# Altium integrated library Vishay Lite-On Discrete Diode.IntLib: 290 symbols (part 2 of 3)
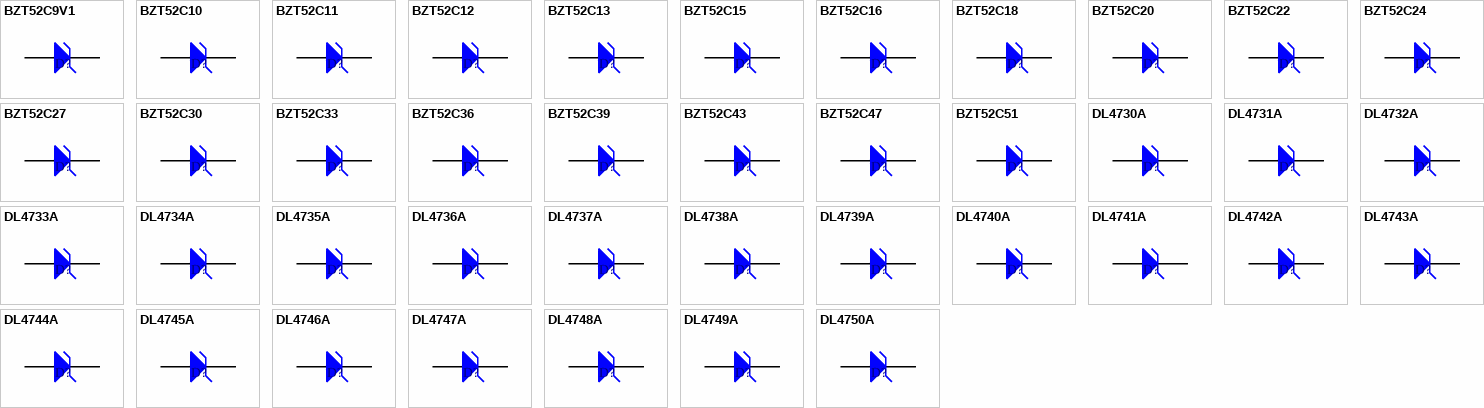
[diagram p8: symbols BZT52C9V1 to DL4750A]

## DL4731A
designator D?
Silicon Zener Diode; Published: 8-Jun-2000; LatestRevisionDate: 19-Mar-2004; LatestRevisionNote: Silkscreen size reduced.; PackageReference: DL-41; Publisher: Altium Limited; Code_IPC: SOD-87/MLL41; ComponentLink1Description: Manufacturer Link; ComponentLink1URL: http://www.vishay.com/
footprint DL-41 (Metal Electrode Face (MELF) Diode; Body 5 x 2.4 mm (LxDia))
simulation model DL4731A (SUBCKT)
signal-integrity model DL4731A
pins: 1 A, 2 K

## DL4732A
designator D?
Silicon Zener Diode; Published: 8-Jun-2000; LatestRevisionDate: 19-Mar-2004; LatestRevisionNote: Silkscreen size reduced.; PackageReference: DL-41; Publisher: Altium Limited; Code_IPC: SOD-87/MLL41; ComponentLink1Description: Manufacturer Link; ComponentLink1URL: http://www.vishay.com/
footprint DL-41 (Metal Electrode Face (MELF) Diode; Body 5 x 2.4 mm (LxDia))
simulation model DL4732A (SUBCKT)
signal-integrity model DL4732A
pins: 1 A, 2 K

## DL4733A
designator D?
Silicon Zener Diode; Published: 8-Jun-2000; LatestRevisionDate: 19-Mar-2004; LatestRevisionNote: Silkscreen size reduced.; PackageReference: DL-41; Publisher: Altium Limited; Code_IPC: SOD-87/MLL41; ComponentLink1Description: Manufacturer Link; ComponentLink1URL: http://www.vishay.com/
footprint DL-41 (Metal Electrode Face (MELF) Diode; Body 5 x 2.4 mm (LxDia))
simulation model DL4733A (SUBCKT)
signal-integrity model DL4733A
pins: 1 A, 2 K

## DL4734A
designator D?
Silicon Zener Diode; Published: 8-Jun-2000; LatestRevisionDate: 19-Mar-2004; LatestRevisionNote: Silkscreen size reduced.; PackageReference: DL-41; Publisher: Altium Limited; Code_IPC: SOD-87/MLL41; ComponentLink1Description: Manufacturer Link; ComponentLink1URL: http://www.vishay.com/
footprint DL-41 (Metal Electrode Face (MELF) Diode; Body 5 x 2.4 mm (LxDia))
simulation model DL4734A (SUBCKT)
signal-integrity model DL4734A
pins: 1 A, 2 K

## DL4735A
designator D?
Silicon Zener Diode; Published: 8-Jun-2000; LatestRevisionDate: 19-Mar-2004; LatestRevisionNote: Silkscreen size reduced.; PackageReference: DL-41; Publisher: Altium Limited; Code_IPC: SOD-87/MLL41; ComponentLink1Description: Manufacturer Link; ComponentLink1URL: http://www.vishay.com/
footprint DL-41 (Metal Electrode Face (MELF) Diode; Body 5 x 2.4 mm (LxDia))
simulation model DL4735A (SUBCKT)
signal-integrity model DL4735A
pins: 1 A, 2 K

## DL4736A
designator D?
Silicon Zener Diode; Published: 8-Jun-2000; LatestRevisionDate: 19-Mar-2004; LatestRevisionNote: Silkscreen size reduced.; PackageReference: DL-41; Publisher: Altium Limited; Code_IPC: SOD-87/MLL41; ComponentLink1Description: Manufacturer Link; ComponentLink1URL: http://www.vishay.com/
footprint DL-41 (Metal Electrode Face (MELF) Diode; Body 5 x 2.4 mm (LxDia))
simulation model DL4736A (SUBCKT)
signal-integrity model DL4736A
pins: 1 A, 2 K

## DL4737A
designator D?
Silicon Zener Diode; Published: 8-Jun-2000; LatestRevisionDate: 19-Mar-2004; LatestRevisionNote: Silkscreen size reduced.; PackageReference: DL-41; Publisher: Altium Limited; Code_IPC: SOD-87/MLL41; ComponentLink1Description: Manufacturer Link; ComponentLink1URL: http://www.vishay.com/
footprint DL-41 (Metal Electrode Face (MELF) Diode; Body 5 x 2.4 mm (LxDia))
simulation model DL4737A (SUBCKT)
signal-integrity model DL4737A
pins: 1 A, 2 K

## DL4738A
designator D?
Silicon Zener Diode; Published: 8-Jun-2000; LatestRevisionDate: 19-Mar-2004; LatestRevisionNote: Silkscreen size reduced.; PackageReference: DL-41; Publisher: Altium Limited; Code_IPC: SOD-87/MLL41; ComponentLink1Description: Manufacturer Link; ComponentLink1URL: http://www.vishay.com/
footprint DL-41 (Metal Electrode Face (MELF) Diode; Body 5 x 2.4 mm (LxDia))
simulation model DL4738A (SUBCKT)
signal-integrity model DL4738A
pins: 1 A, 2 K

## DL4739A
designator D?
Silicon Zener Diode; Published: 8-Jun-2000; LatestRevisionDate: 19-Mar-2004; LatestRevisionNote: Silkscreen size reduced.; PackageReference: DL-41; Publisher: Altium Limited; Code_IPC: SOD-87/MLL41; ComponentLink1Description: Manufacturer Link; ComponentLink1URL: http://www.vishay.com/
footprint DL-41 (Metal Electrode Face (MELF) Diode; Body 5 x 2.4 mm (LxDia))
simulation model DL4739A (SUBCKT)
signal-integrity model DL4739A
pins: 1 A, 2 K

## DL4740A
designator D?
Silicon Zener Diode; Published: 8-Jun-2000; LatestRevisionDate: 19-Mar-2004; LatestRevisionNote: Silkscreen size reduced.; PackageReference: DL-41; Publisher: Altium Limited; Code_IPC: SOD-87/MLL41; ComponentLink1Description: Manufacturer Link; ComponentLink1URL: http://www.vishay.com/
footprint DL-41 (Metal Electrode Face (MELF) Diode; Body 5 x 2.4 mm (LxDia))
simulation model DL4740A (SUBCKT)
signal-integrity model DL4740A
pins: 1 A, 2 K

## DL4741A
designator D?
Silicon Zener Diode; Published: 8-Jun-2000; LatestRevisionDate: 19-Mar-2004; LatestRevisionNote: Silkscreen size reduced.; PackageReference: DL-41; Publisher: Altium Limited; Code_IPC: SOD-87/MLL41; ComponentLink1Description: Manufacturer Link; ComponentLink1URL: http://www.vishay.com/
footprint DL-41 (Metal Electrode Face (MELF) Diode; Body 5 x 2.4 mm (LxDia))
simulation model DL4741A (SUBCKT)
signal-integrity model DL4741A
pins: 1 A, 2 K

## DL4742A
designator D?
Silicon Zener Diode; Published: 8-Jun-2000; LatestRevisionDate: 19-Mar-2004; LatestRevisionNote: Silkscreen size reduced.; PackageReference: DL-41; Publisher: Altium Limited; Code_IPC: SOD-87/MLL41; ComponentLink1Description: Manufacturer Link; ComponentLink1URL: http://www.vishay.com/
footprint DL-41 (Metal Electrode Face (MELF) Diode; Body 5 x 2.4 mm (LxDia))
simulation model DL4742A (SUBCKT)
signal-integrity model DL4742A
pins: 1 A, 2 K

## DL4743A
designator D?
Silicon Zener Diode; Published: 8-Jun-2000; LatestRevisionDate: 19-Mar-2004; LatestRevisionNote: Silkscreen size reduced.; PackageReference: DL-41; Publisher: Altium Limited; Code_IPC: SOD-87/MLL41; ComponentLink1Description: Manufacturer Link; ComponentLink1URL: http://www.vishay.com/
footprint DL-41 (Metal Electrode Face (MELF) Diode; Body 5 x 2.4 mm (LxDia))
simulation model DL4743A (SUBCKT)
signal-integrity model DL4743A
pins: 1 A, 2 K

## DL4744A
designator D?
Silicon Zener Diode; Published: 8-Jun-2000; LatestRevisionDate: 19-Mar-2004; LatestRevisionNote: Silkscreen size reduced.; PackageReference: DL-41; Publisher: Altium Limited; Code_IPC: SOD-87/MLL41; ComponentLink1Description: Manufacturer Link; ComponentLink1URL: http://www.vishay.com/
footprint DL-41 (Metal Electrode Face (MELF) Diode; Body 5 x 2.4 mm (LxDia))
simulation model DL4744A (SUBCKT)
signal-integrity model DL4744A
pins: 1 A, 2 K

## DL4745A
designator D?
Silicon Zener Diode; Published: 8-Jun-2000; LatestRevisionDate: 19-Mar-2004; LatestRevisionNote: Silkscreen size reduced.; PackageReference: DL-41; Publisher: Altium Limited; Code_IPC: SOD-87/MLL41; ComponentLink1Description: Manufacturer Link; ComponentLink1URL: http://www.vishay.com/
footprint DL-41 (Metal Electrode Face (MELF) Diode; Body 5 x 2.4 mm (LxDia))
simulation model DL4745A (SUBCKT)
signal-integrity model DL4745A
pins: 1 A, 2 K

## DL4746A
designator D?
Silicon Zener Diode; Published: 8-Jun-2000; LatestRevisionDate: 19-Mar-2004; LatestRevisionNote: Silkscreen size reduced.; PackageReference: DL-41; Publisher: Altium Limited; Code_IPC: SOD-87/MLL41; ComponentLink1Description: Manufacturer Link; ComponentLink1URL: http://www.vishay.com/
footprint DL-41 (Metal Electrode Face (MELF) Diode; Body 5 x 2.4 mm (LxDia))
simulation model DL4746A (SUBCKT)
signal-integrity model DL4746A
pins: 1 A, 2 K

## DL4747A
designator D?
Silicon Zener Diode; Published: 8-Jun-2000; LatestRevisionDate: 19-Mar-2004; LatestRevisionNote: Silkscreen size reduced.; PackageReference: DL-41; Publisher: Altium Limited; Code_IPC: SOD-87/MLL41; ComponentLink1Description: Manufacturer Link; ComponentLink1URL: http://www.vishay.com/
footprint DL-41 (Metal Electrode Face (MELF) Diode; Body 5 x 2.4 mm (LxDia))
simulation model DL4747A (SUBCKT)
signal-integrity model DL4747A
pins: 1 A, 2 K

## DL4748A
designator D?
Silicon Zener Diode; Published: 8-Jun-2000; LatestRevisionDate: 19-Mar-2004; LatestRevisionNote: Silkscreen size reduced.; PackageReference: DL-41; Publisher: Altium Limited; Code_IPC: SOD-87/MLL41; ComponentLink1Description: Manufacturer Link; ComponentLink1URL: http://www.vishay.com/
footprint DL-41 (Metal Electrode Face (MELF) Diode; Body 5 x 2.4 mm (LxDia))
simulation model DL4748A (SUBCKT)
signal-integrity model DL4748A
pins: 1 A, 2 K

## DL4749A
designator D?
Silicon Zener Diode; Published: 8-Jun-2000; LatestRevisionDate: 19-Mar-2004; LatestRevisionNote: Silkscreen size reduced.; PackageReference: DL-41; Publisher: Altium Limited; Code_IPC: SOD-87/MLL41; ComponentLink1Description: Manufacturer Link; ComponentLink1URL: http://www.vishay.com/
footprint DL-41 (Metal Electrode Face (MELF) Diode; Body 5 x 2.4 mm (LxDia))
simulation model DL4749A (SUBCKT)
signal-integrity model DL4749A
pins: 1 A, 2 K

## DL4750A
designator D?
Silicon Zener Diode; Published: 8-Jun-2000; LatestRevisionDate: 19-Mar-2004; LatestRevisionNote: Silkscreen size reduced.; PackageReference: DL-41; Publisher: Altium Limited; Code_IPC: SOD-87/MLL41; ComponentLink1Description: Manufacturer Link; ComponentLink1URL: http://www.vishay.com/
footprint DL-41 (Metal Electrode Face (MELF) Diode; Body 5 x 2.4 mm (LxDia))
simulation model DL4750A (SUBCKT)
signal-integrity model DL4750A
pins: 1 A, 2 K

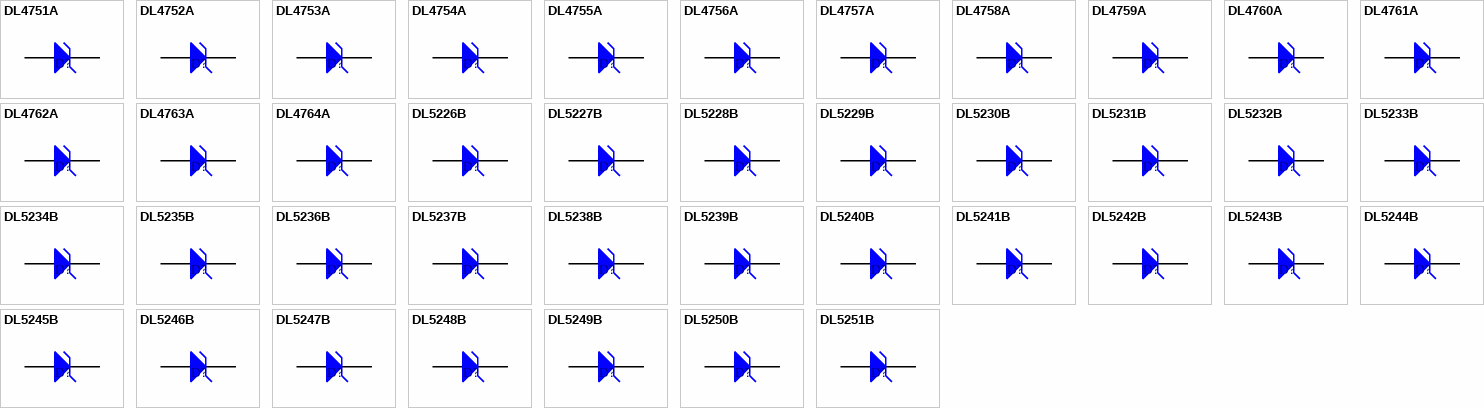
[diagram p3: symbols DL4751A to DL5251B]

## DL4751A
designator D?
Silicon Zener Diode; Published: 8-Jun-2000; LatestRevisionDate: 19-Mar-2004; LatestRevisionNote: Silkscreen size reduced.; PackageReference: DL-41; Publisher: Altium Limited; Code_IPC: SOD-87/MLL41; ComponentLink1Description: Manufacturer Link; ComponentLink1URL: http://www.vishay.com/
footprint DL-41 (Metal Electrode Face (MELF) Diode; Body 5 x 2.4 mm (LxDia))
simulation model DL4751A (SUBCKT)
signal-integrity model DL4751A
pins: 1 A, 2 K

## DL4752A
designator D?
Silicon Zener Diode; Published: 8-Jun-2000; LatestRevisionDate: 19-Mar-2004; LatestRevisionNote: Silkscreen size reduced.; PackageReference: DL-41; Publisher: Altium Limited; Code_IPC: SOD-87/MLL41; ComponentLink1Description: Manufacturer Link; ComponentLink1URL: http://www.vishay.com/
footprint DL-41 (Metal Electrode Face (MELF) Diode; Body 5 x 2.4 mm (LxDia))
simulation model DL4752A (SUBCKT)
signal-integrity model DL4752A
pins: 1 A, 2 K

## DL4753A
designator D?
Silicon Zener Diode; Published: 8-Jun-2000; LatestRevisionDate: 19-Mar-2004; LatestRevisionNote: Silkscreen size reduced.; PackageReference: DL-41; Publisher: Altium Limited; Code_IPC: SOD-87/MLL41; ComponentLink1Description: Manufacturer Link; ComponentLink1URL: http://www.vishay.com/
footprint DL-41 (Metal Electrode Face (MELF) Diode; Body 5 x 2.4 mm (LxDia))
simulation model DL4753A (SUBCKT)
signal-integrity model DL4753A
pins: 1 A, 2 K

## DL4754A
designator D?
Silicon Zener Diode; Published: 8-Jun-2000; LatestRevisionDate: 19-Mar-2004; LatestRevisionNote: Silkscreen size reduced.; PackageReference: DL-41; Publisher: Altium Limited; Code_IPC: SOD-87/MLL41; ComponentLink1Description: Manufacturer Link; ComponentLink1URL: http://www.vishay.com/
footprint DL-41 (Metal Electrode Face (MELF) Diode; Body 5 x 2.4 mm (LxDia))
simulation model DL4754A (SUBCKT)
signal-integrity model DL4754A
pins: 1 A, 2 K

## DL4755A
designator D?
Silicon Zener Diode; Published: 8-Jun-2000; LatestRevisionDate: 19-Mar-2004; LatestRevisionNote: Silkscreen size reduced.; PackageReference: DL-41; Publisher: Altium Limited; Code_IPC: SOD-87/MLL41; ComponentLink1Description: Manufacturer Link; ComponentLink1URL: http://www.vishay.com/
footprint DL-41 (Metal Electrode Face (MELF) Diode; Body 5 x 2.4 mm (LxDia))
simulation model DL4755A (SUBCKT)
signal-integrity model DL4755A
pins: 1 A, 2 K

## DL4756A
designator D?
Silicon Zener Diode; Published: 8-Jun-2000; LatestRevisionDate: 19-Mar-2004; LatestRevisionNote: Silkscreen size reduced.; PackageReference: DL-41; Publisher: Altium Limited; Code_IPC: SOD-87/MLL41; ComponentLink1Description: Manufacturer Link; ComponentLink1URL: http://www.vishay.com/
footprint DL-41 (Metal Electrode Face (MELF) Diode; Body 5 x 2.4 mm (LxDia))
simulation model DL4756A (SUBCKT)
signal-integrity model DL4756A
pins: 1 A, 2 K

## DL4757A
designator D?
Silicon Zener Diode; Published: 8-Jun-2000; LatestRevisionDate: 19-Mar-2004; LatestRevisionNote: Silkscreen size reduced.; PackageReference: DL-41; Publisher: Altium Limited; Code_IPC: SOD-87/MLL41; ComponentLink1Description: Manufacturer Link; ComponentLink1URL: http://www.vishay.com/
footprint DL-41 (Metal Electrode Face (MELF) Diode; Body 5 x 2.4 mm (LxDia))
simulation model DL4757A (SUBCKT)
signal-integrity model DL4757A
pins: 1 A, 2 K

## DL4758A
designator D?
Silicon Zener Diode; Published: 8-Jun-2000; LatestRevisionDate: 19-Mar-2004; LatestRevisionNote: Silkscreen size reduced.; PackageReference: DL-41; Publisher: Altium Limited; Code_IPC: SOD-87/MLL41; ComponentLink1Description: Manufacturer Link; ComponentLink1URL: http://www.vishay.com/
footprint DL-41 (Metal Electrode Face (MELF) Diode; Body 5 x 2.4 mm (LxDia))
simulation model DL4758A (SUBCKT)
signal-integrity model DL4758A
pins: 1 A, 2 K

## DL4759A
designator D?
Silicon Zener Diode; Published: 8-Jun-2000; LatestRevisionDate: 19-Mar-2004; LatestRevisionNote: Silkscreen size reduced.; PackageReference: DL-41; Publisher: Altium Limited; Code_IPC: SOD-87/MLL41; ComponentLink1Description: Manufacturer Link; ComponentLink1URL: http://www.vishay.com/
footprint DL-41 (Metal Electrode Face (MELF) Diode; Body 5 x 2.4 mm (LxDia))
simulation model DL4759A (SUBCKT)
signal-integrity model DL4759A
pins: 1 A, 2 K

## DL4760A
designator D?
Silicon Zener Diode; Published: 8-Jun-2000; LatestRevisionDate: 19-Mar-2004; LatestRevisionNote: Silkscreen size reduced.; PackageReference: DL-41; Publisher: Altium Limited; Code_IPC: SOD-87/MLL41; ComponentLink1Description: Manufacturer Link; ComponentLink1URL: http://www.vishay.com/
footprint DL-41 (Metal Electrode Face (MELF) Diode; Body 5 x 2.4 mm (LxDia))
simulation model DL4760A (SUBCKT)
signal-integrity model DL4760A
pins: 1 A, 2 K

## DL4761A
designator D?
Silicon Zener Diode; Published: 8-Jun-2000; LatestRevisionDate: 19-Mar-2004; LatestRevisionNote: Silkscreen size reduced.; PackageReference: DL-41; Publisher: Altium Limited; Code_IPC: SOD-87/MLL41; ComponentLink1Description: Manufacturer Link; ComponentLink1URL: http://www.vishay.com/
footprint DL-41 (Metal Electrode Face (MELF) Diode; Body 5 x 2.4 mm (LxDia))
simulation model DL4761A (SUBCKT)
signal-integrity model DL4761A
pins: 1 A, 2 K

## DL4762A
designator D?
Silicon Zener Diode; Published: 8-Jun-2000; LatestRevisionDate: 19-Mar-2004; LatestRevisionNote: Silkscreen size reduced.; PackageReference: DL-41; Publisher: Altium Limited; Code_IPC: SOD-87/MLL41; ComponentLink1Description: Manufacturer Link; ComponentLink1URL: http://www.vishay.com/
footprint DL-41 (Metal Electrode Face (MELF) Diode; Body 5 x 2.4 mm (LxDia))
simulation model DL4762A (SUBCKT)
signal-integrity model DL4762A
pins: 1 A, 2 K

## DL4763A
designator D?
Silicon Zener Diode; Published: 8-Jun-2000; LatestRevisionDate: 19-Mar-2004; LatestRevisionNote: Silkscreen size reduced.; PackageReference: DL-41; Publisher: Altium Limited; Code_IPC: SOD-87/MLL41; ComponentLink1Description: Manufacturer Link; ComponentLink1URL: http://www.vishay.com/
footprint DL-41 (Metal Electrode Face (MELF) Diode; Body 5 x 2.4 mm (LxDia))
simulation model DL4763A (SUBCKT)
signal-integrity model DL4763A
pins: 1 A, 2 K

## DL4764A
designator D?
Silicon Zener Diode; Published: 8-Jun-2000; LatestRevisionDate: 19-Mar-2004; LatestRevisionNote: Silkscreen size reduced.; PackageReference: DL-41; Publisher: Altium Limited; Code_IPC: SOD-87/MLL41; ComponentLink1Description: Manufacturer Link; ComponentLink1URL: http://www.vishay.com/
footprint DL-41 (Metal Electrode Face (MELF) Diode; Body 5 x 2.4 mm (LxDia))
simulation model DL4764A (SUBCKT)
signal-integrity model DL4764A
pins: 1 A, 2 K

## DL5226B
designator D?
Silicon Zener Diode; Published: 8-Jun-2000; LatestRevisionDate: 19-Mar-2004; LatestRevisionNote: Silkscreen size reduced.; PackageReference: DL-35; Publisher: Altium Limited; ComponentLink1Description: Manufacturer Link; ComponentLink1URL: http://www.vishay.com/
footprint DL-35 (Metal Electrode Face (MELF) Diode; Body 3.5 x 1.5 mm (LxDia))
simulation model DL5226B (SUBCKT)
signal-integrity model DL5226B
pins: 1 A, 2 K

## DL5227B
designator D?
Silicon Zener Diode; Published: 8-Jun-2000; LatestRevisionDate: 19-Mar-2004; LatestRevisionNote: Silkscreen size reduced.; PackageReference: DL-35; Publisher: Altium Limited; ComponentLink1Description: Manufacturer Link; ComponentLink1URL: http://www.vishay.com/
footprint DL-35 (Metal Electrode Face (MELF) Diode; Body 3.5 x 1.5 mm (LxDia))
simulation model DL5227B (SUBCKT)
signal-integrity model DL5227B
pins: 1 A, 2 K

## DL5228B
designator D?
Silicon Zener Diode; Published: 8-Jun-2000; LatestRevisionDate: 19-Mar-2004; LatestRevisionNote: Silkscreen size reduced.; PackageReference: DL-35; Publisher: Altium Limited; ComponentLink1Description: Manufacturer Link; ComponentLink1URL: http://www.vishay.com/
footprint DL-35 (Metal Electrode Face (MELF) Diode; Body 3.5 x 1.5 mm (LxDia))
simulation model DL5228B (SUBCKT)
signal-integrity model DL5228B
pins: 1 A, 2 K

## DL5229B
designator D?
Silicon Zener Diode; Published: 8-Jun-2000; LatestRevisionDate: 19-Mar-2004; LatestRevisionNote: Silkscreen size reduced.; PackageReference: DL-35; Publisher: Altium Limited; ComponentLink1Description: Manufacturer Link; ComponentLink1URL: http://www.vishay.com/
footprint DL-35 (Metal Electrode Face (MELF) Diode; Body 3.5 x 1.5 mm (LxDia))
simulation model DL5229B (SUBCKT)
signal-integrity model DL5229B
pins: 1 A, 2 K

## DL5230B
designator D?
Silicon Zener Diode; Published: 8-Jun-2000; LatestRevisionDate: 19-Mar-2004; LatestRevisionNote: Silkscreen size reduced.; PackageReference: DL-35; Publisher: Altium Limited; ComponentLink1Description: Manufacturer Link; ComponentLink1URL: http://www.vishay.com/
footprint DL-35 (Metal Electrode Face (MELF) Diode; Body 3.5 x 1.5 mm (LxDia))
simulation model DL5230B (SUBCKT)
signal-integrity model DL5230B
pins: 1 A, 2 K

## DL5231B
designator D?
Silicon Zener Diode; Published: 8-Jun-2000; LatestRevisionDate: 19-Mar-2004; LatestRevisionNote: Silkscreen size reduced.; PackageReference: DL-35; Publisher: Altium Limited; ComponentLink1Description: Manufacturer Link; ComponentLink1URL: http://www.vishay.com/
footprint DL-35 (Metal Electrode Face (MELF) Diode; Body 3.5 x 1.5 mm (LxDia))
simulation model DL5231B (SUBCKT)
signal-integrity model DL5231B
pins: 1 A, 2 K

## DL5232B
designator D?
Silicon Zener Diode; Published: 8-Jun-2000; LatestRevisionDate: 19-Mar-2004; LatestRevisionNote: Silkscreen size reduced.; PackageReference: DL-35; Publisher: Altium Limited; ComponentLink1Description: Manufacturer Link; ComponentLink1URL: http://www.vishay.com/
footprint DL-35 (Metal Electrode Face (MELF) Diode; Body 3.5 x 1.5 mm (LxDia))
simulation model DL5232B (SUBCKT)
signal-integrity model DL5232B
pins: 1 A, 2 K

## DL5233B
designator D?
Silicon Zener Diode; Published: 8-Jun-2000; LatestRevisionDate: 19-Mar-2004; LatestRevisionNote: Silkscreen size reduced.; PackageReference: DL-35; Publisher: Altium Limited; ComponentLink1Description: Manufacturer Link; ComponentLink1URL: http://www.vishay.com/
footprint DL-35 (Metal Electrode Face (MELF) Diode; Body 3.5 x 1.5 mm (LxDia))
simulation model DL5233B (SUBCKT)
signal-integrity model DL5233B
pins: 1 A, 2 K

## DL5234B
designator D?
Silicon Zener Diode; Published: 8-Jun-2000; LatestRevisionDate: 19-Mar-2004; LatestRevisionNote: Silkscreen size reduced.; PackageReference: DL-35; Publisher: Altium Limited; ComponentLink1Description: Manufacturer Link; ComponentLink1URL: http://www.vishay.com/
footprint DL-35 (Metal Electrode Face (MELF) Diode; Body 3.5 x 1.5 mm (LxDia))
simulation model DL5234B (SUBCKT)
signal-integrity model DL5234B
pins: 1 A, 2 K

## DL5235B
designator D?
Silicon Zener Diode; Published: 8-Jun-2000; LatestRevisionDate: 19-Mar-2004; LatestRevisionNote: Silkscreen size reduced.; PackageReference: DL-35; Publisher: Altium Limited; ComponentLink1Description: Manufacturer Link; ComponentLink1URL: http://www.vishay.com/
footprint DL-35 (Metal Electrode Face (MELF) Diode; Body 3.5 x 1.5 mm (LxDia))
simulation model DL5235B (SUBCKT)
signal-integrity model DL5235B
pins: 1 A, 2 K

## DL5236B
designator D?
Silicon Zener Diode; Published: 8-Jun-2000; LatestRevisionDate: 19-Mar-2004; LatestRevisionNote: Silkscreen size reduced.; PackageReference: DL-35; Publisher: Altium Limited; ComponentLink1Description: Manufacturer Link; ComponentLink1URL: http://www.vishay.com/
footprint DL-35 (Metal Electrode Face (MELF) Diode; Body 3.5 x 1.5 mm (LxDia))
simulation model DL5236B (SUBCKT)
signal-integrity model DL5236B
pins: 1 A, 2 K

## DL5237B
designator D?
Silicon Zener Diode; Published: 8-Jun-2000; LatestRevisionDate: 19-Mar-2004; LatestRevisionNote: Silkscreen size reduced.; PackageReference: DL-35; Publisher: Altium Limited; ComponentLink1Description: Manufacturer Link; ComponentLink1URL: http://www.vishay.com/
footprint DL-35 (Metal Electrode Face (MELF) Diode; Body 3.5 x 1.5 mm (LxDia))
simulation model DL5237B (SUBCKT)
signal-integrity model DL5237B
pins: 1 A, 2 K

## DL5238B
designator D?
Silicon Zener Diode; Published: 8-Jun-2000; LatestRevisionDate: 19-Mar-2004; LatestRevisionNote: Silkscreen size reduced.; PackageReference: DL-35; Publisher: Altium Limited; ComponentLink1Description: Manufacturer Link; ComponentLink1URL: http://www.vishay.com/
footprint DL-35 (Metal Electrode Face (MELF) Diode; Body 3.5 x 1.5 mm (LxDia))
simulation model DL5238B (SUBCKT)
signal-integrity model DL5238B
pins: 1 A, 2 K

## DL5239B
designator D?
Silicon Zener Diode; Published: 8-Jun-2000; LatestRevisionDate: 19-Mar-2004; LatestRevisionNote: Silkscreen size reduced.; PackageReference: DL-35; Publisher: Altium Limited; ComponentLink1Description: Manufacturer Link; ComponentLink1URL: http://www.vishay.com/
footprint DL-35 (Metal Electrode Face (MELF) Diode; Body 3.5 x 1.5 mm (LxDia))
simulation model DL5239B (SUBCKT)
signal-integrity model DL5239B
pins: 1 A, 2 K

## DL5240B
designator D?
Silicon Zener Diode; Published: 8-Jun-2000; LatestRevisionDate: 19-Mar-2004; LatestRevisionNote: Silkscreen size reduced.; PackageReference: DL-35; Publisher: Altium Limited; ComponentLink1Description: Manufacturer Link; ComponentLink1URL: http://www.vishay.com/
footprint DL-35 (Metal Electrode Face (MELF) Diode; Body 3.5 x 1.5 mm (LxDia))
simulation model DL5240B (SUBCKT)
signal-integrity model DL5240B
pins: 1 A, 2 K

## DL5241B
designator D?
Silicon Zener Diode; Published: 8-Jun-2000; LatestRevisionDate: 19-Mar-2004; LatestRevisionNote: Silkscreen size reduced.; PackageReference: DL-35; Publisher: Altium Limited; ComponentLink1Description: Manufacturer Link; ComponentLink1URL: http://www.vishay.com/
footprint DL-35 (Metal Electrode Face (MELF) Diode; Body 3.5 x 1.5 mm (LxDia))
simulation model DL5241B (SUBCKT)
signal-integrity model DL5241B
pins: 1 A, 2 K

## DL5242B
designator D?
Silicon Zener Diode; Published: 8-Jun-2000; LatestRevisionDate: 19-Mar-2004; LatestRevisionNote: Silkscreen size reduced.; PackageReference: DL-35; Publisher: Altium Limited; ComponentLink1Description: Manufacturer Link; ComponentLink1URL: http://www.vishay.com/
footprint DL-35 (Metal Electrode Face (MELF) Diode; Body 3.5 x 1.5 mm (LxDia))
simulation model DL5242B (SUBCKT)
signal-integrity model DL5242B
pins: 1 A, 2 K

## DL5243B
designator D?
Silicon Zener Diode; Published: 8-Jun-2000; LatestRevisionDate: 19-Mar-2004; LatestRevisionNote: Silkscreen size reduced.; PackageReference: DL-35; Publisher: Altium Limited; ComponentLink1Description: Manufacturer Link; ComponentLink1URL: http://www.vishay.com/
footprint DL-35 (Metal Electrode Face (MELF) Diode; Body 3.5 x 1.5 mm (LxDia))
simulation model DL5243B (SUBCKT)
signal-integrity model DL5243B
pins: 1 A, 2 K

## DL5244B
designator D?
Silicon Zener Diode; Published: 8-Jun-2000; LatestRevisionDate: 19-Mar-2004; LatestRevisionNote: Silkscreen size reduced.; PackageReference: DL-35; Publisher: Altium Limited; ComponentLink1Description: Manufacturer Link; ComponentLink1URL: http://www.vishay.com/
footprint DL-35 (Metal Electrode Face (MELF) Diode; Body 3.5 x 1.5 mm (LxDia))
simulation model DL5244B (SUBCKT)
signal-integrity model DL5244B
pins: 1 A, 2 K

## DL5245B
designator D?
Silicon Zener Diode; Published: 8-Jun-2000; LatestRevisionDate: 19-Mar-2004; LatestRevisionNote: Silkscreen size reduced.; PackageReference: DL-35; Publisher: Altium Limited; ComponentLink1Description: Manufacturer Link; ComponentLink1URL: http://www.vishay.com/
footprint DL-35 (Metal Electrode Face (MELF) Diode; Body 3.5 x 1.5 mm (LxDia))
simulation model DL5245B (SUBCKT)
signal-integrity model DL5245B
pins: 1 A, 2 K

## DL5246B
designator D?
Silicon Zener Diode; Published: 8-Jun-2000; LatestRevisionDate: 19-Mar-2004; LatestRevisionNote: Silkscreen size reduced.; PackageReference: DL-35; Publisher: Altium Limited; ComponentLink1Description: Manufacturer Link; ComponentLink1URL: http://www.vishay.com/
footprint DL-35 (Metal Electrode Face (MELF) Diode; Body 3.5 x 1.5 mm (LxDia))
simulation model DL5246B (SUBCKT)
signal-integrity model DL5246B
pins: 1 A, 2 K

## DL5247B
designator D?
Silicon Zener Diode; Published: 8-Jun-2000; LatestRevisionDate: 19-Mar-2004; LatestRevisionNote: Silkscreen size reduced.; PackageReference: DL-35; Publisher: Altium Limited; ComponentLink1Description: Manufacturer Link; ComponentLink1URL: http://www.vishay.com/
footprint DL-35 (Metal Electrode Face (MELF) Diode; Body 3.5 x 1.5 mm (LxDia))
simulation model DL5247B (SUBCKT)
signal-integrity model DL5247B
pins: 1 A, 2 K

## DL5248B
designator D?
Silicon Zener Diode; Published: 8-Jun-2000; LatestRevisionDate: 19-Mar-2004; LatestRevisionNote: Silkscreen size reduced.; PackageReference: DL-35; Publisher: Altium Limited; ComponentLink1Description: Manufacturer Link; ComponentLink1URL: http://www.vishay.com/
footprint DL-35 (Metal Electrode Face (MELF) Diode; Body 3.5 x 1.5 mm (LxDia))
simulation model DL5248B (SUBCKT)
signal-integrity model DL5248B
pins: 1 A, 2 K

## DL5249B
designator D?
Silicon Zener Diode; Published: 8-Jun-2000; LatestRevisionDate: 19-Mar-2004; LatestRevisionNote: Silkscreen size reduced.; PackageReference: DL-35; Publisher: Altium Limited; ComponentLink1Description: Manufacturer Link; ComponentLink1URL: http://www.vishay.com/
footprint DL-35 (Metal Electrode Face (MELF) Diode; Body 3.5 x 1.5 mm (LxDia))
simulation model DL5249B (SUBCKT)
signal-integrity model DL5249B
pins: 1 A, 2 K

## DL5250B
designator D?
Silicon Zener Diode; Published: 8-Jun-2000; LatestRevisionDate: 19-Mar-2004; LatestRevisionNote: Silkscreen size reduced.; PackageReference: DL-35; Publisher: Altium Limited; ComponentLink1Description: Manufacturer Link; ComponentLink1URL: http://www.vishay.com/
footprint DL-35 (Metal Electrode Face (MELF) Diode; Body 3.5 x 1.5 mm (LxDia))
simulation model DL5250B (SUBCKT)
signal-integrity model DL5250B
pins: 1 A, 2 K

## DL5251B
designator D?
Silicon Zener Diode; Published: 8-Jun-2000; LatestRevisionDate: 19-Mar-2004; LatestRevisionNote: Silkscreen size reduced.; PackageReference: DL-35; Publisher: Altium Limited; ComponentLink1Description: Manufacturer Link; ComponentLink1URL: http://www.vishay.com/
footprint DL-35 (Metal Electrode Face (MELF) Diode; Body 3.5 x 1.5 mm (LxDia))
simulation model DL5251B (SUBCKT)
signal-integrity model DL5251B
pins: 1 A, 2 K

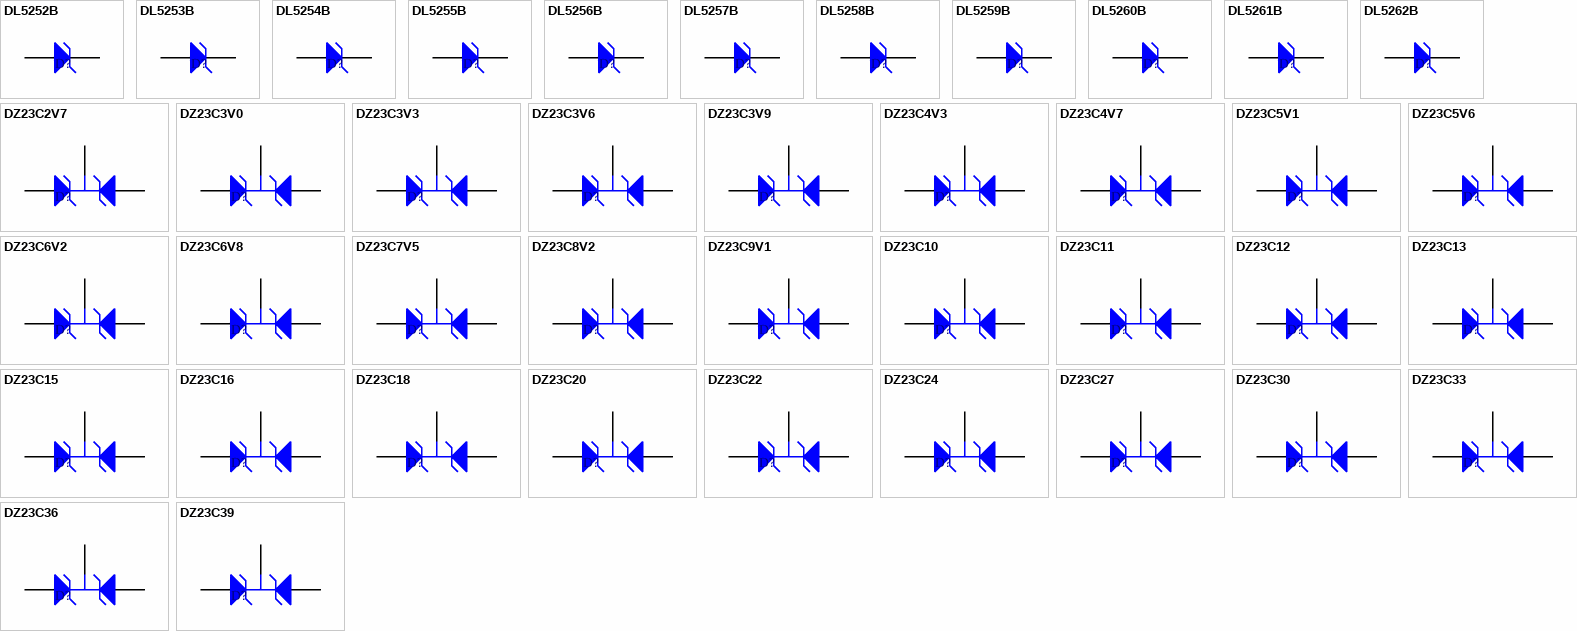
[diagram p4: symbols DL5252B to DZ23C39]

## DL5252B
designator D?
Silicon Zener Diode; Published: 8-Jun-2000; LatestRevisionDate: 19-Mar-2004; LatestRevisionNote: Silkscreen size reduced.; PackageReference: DL-35; Publisher: Altium Limited; ComponentLink1Description: Manufacturer Link; ComponentLink1URL: http://www.vishay.com/
footprint DL-35 (Metal Electrode Face (MELF) Diode; Body 3.5 x 1.5 mm (LxDia))
simulation model DL5252B (SUBCKT)
signal-integrity model DL5252B
pins: 1 A, 2 K

## DL5253B
designator D?
Silicon Zener Diode; Published: 8-Jun-2000; LatestRevisionDate: 19-Mar-2004; LatestRevisionNote: Silkscreen size reduced.; PackageReference: DL-35; Publisher: Altium Limited; ComponentLink1Description: Manufacturer Link; ComponentLink1URL: http://www.vishay.com/
footprint DL-35 (Metal Electrode Face (MELF) Diode; Body 3.5 x 1.5 mm (LxDia))
simulation model DL5253B (SUBCKT)
signal-integrity model DL5253B
pins: 1 A, 2 K

## DL5254B
designator D?
Silicon Zener Diode; Published: 8-Jun-2000; LatestRevisionDate: 19-Mar-2004; LatestRevisionNote: Silkscreen size reduced.; PackageReference: DL-35; Publisher: Altium Limited; ComponentLink1Description: Manufacturer Link; ComponentLink1URL: http://www.vishay.com/
footprint DL-35 (Metal Electrode Face (MELF) Diode; Body 3.5 x 1.5 mm (LxDia))
simulation model DL5254B (SUBCKT)
signal-integrity model DL5254B
pins: 1 A, 2 K

## DL5255B
designator D?
Silicon Zener Diode; Published: 8-Jun-2000; LatestRevisionDate: 19-Mar-2004; LatestRevisionNote: Silkscreen size reduced.; PackageReference: DL-35; Publisher: Altium Limited; ComponentLink1Description: Manufacturer Link; ComponentLink1URL: http://www.vishay.com/
footprint DL-35 (Metal Electrode Face (MELF) Diode; Body 3.5 x 1.5 mm (LxDia))
simulation model DL5255B (SUBCKT)
signal-integrity model DL5255B
pins: 1 A, 2 K

## DL5256B
designator D?
Silicon Zener Diode; Published: 8-Jun-2000; LatestRevisionDate: 19-Mar-2004; LatestRevisionNote: Silkscreen size reduced.; PackageReference: DL-35; Publisher: Altium Limited; ComponentLink1Description: Manufacturer Link; ComponentLink1URL: http://www.vishay.com/
footprint DL-35 (Metal Electrode Face (MELF) Diode; Body 3.5 x 1.5 mm (LxDia))
simulation model DL5256B (SUBCKT)
signal-integrity model DL5256B
pins: 1 A, 2 K

## DL5257B
designator D?
Silicon Zener Diode; Published: 8-Jun-2000; LatestRevisionDate: 19-Mar-2004; LatestRevisionNote: Silkscreen size reduced.; PackageReference: DL-35; Publisher: Altium Limited; ComponentLink1Description: Manufacturer Link; ComponentLink1URL: http://www.vishay.com/
footprint DL-35 (Metal Electrode Face (MELF) Diode; Body 3.5 x 1.5 mm (LxDia))
simulation model DL5257B (SUBCKT)
signal-integrity model DL5257B
pins: 1 A, 2 K

## DL5258B
designator D?
Silicon Zener Diode; Published: 8-Jun-2000; LatestRevisionDate: 19-Mar-2004; LatestRevisionNote: Silkscreen size reduced.; PackageReference: DL-35; Publisher: Altium Limited; ComponentLink1Description: Manufacturer Link; ComponentLink1URL: http://www.vishay.com/
footprint DL-35 (Metal Electrode Face (MELF) Diode; Body 3.5 x 1.5 mm (LxDia))
simulation model DL5258B (SUBCKT)
signal-integrity model DL5258B
pins: 1 A, 2 K

## DL5259B
designator D?
Silicon Zener Diode; Published: 8-Jun-2000; LatestRevisionDate: 19-Mar-2004; LatestRevisionNote: Silkscreen size reduced.; PackageReference: DL-35; Publisher: Altium Limited; ComponentLink1Description: Manufacturer Link; ComponentLink1URL: http://www.vishay.com/
footprint DL-35 (Metal Electrode Face (MELF) Diode; Body 3.5 x 1.5 mm (LxDia))
simulation model DL5259B (SUBCKT)
signal-integrity model DL5259B
pins: 1 A, 2 K

## DL5260B
designator D?
Silicon Zener Diode; Published: 8-Jun-2000; LatestRevisionDate: 19-Mar-2004; LatestRevisionNote: Silkscreen size reduced.; PackageReference: DL-35; Publisher: Altium Limited; ComponentLink1Description: Manufacturer Link; ComponentLink1URL: http://www.vishay.com/
footprint DL-35 (Metal Electrode Face (MELF) Diode; Body 3.5 x 1.5 mm (LxDia))
simulation model DL5260B (SUBCKT)
signal-integrity model DL5260B
pins: 1 A, 2 K

## DL5261B
designator D?
Silicon Zener Diode; Published: 8-Jun-2000; LatestRevisionDate: 19-Mar-2004; LatestRevisionNote: Silkscreen size reduced.; PackageReference: DL-35; Publisher: Altium Limited; ComponentLink1Description: Manufacturer Link; ComponentLink1URL: http://www.vishay.com/
footprint DL-35 (Metal Electrode Face (MELF) Diode; Body 3.5 x 1.5 mm (LxDia))
simulation model DL5261B (SUBCKT)
signal-integrity model DL5261B
pins: 1 A, 2 K

## DL5262B
designator D?
Silicon Zener Diode; Published: 8-Jun-2000; LatestRevisionDate: 19-Mar-2004; LatestRevisionNote: Silkscreen size reduced.; PackageReference: DL-35; Publisher: Altium Limited; ComponentLink1Description: Manufacturer Link; ComponentLink1URL: http://www.vishay.com/
footprint DL-35 (Metal Electrode Face (MELF) Diode; Body 3.5 x 1.5 mm (LxDia))
simulation model DL5262B (SUBCKT)
signal-integrity model DL5262B
pins: 1 A, 2 K

## DZ23C2V7
designator D?
300mW Dual Surface Mount Zener Diode; Published: 8-Jun-2000; LatestRevisionDate: 17-Jul-2002; LatestRevisionNote: Re-released for DXP Platform.; DatasheetDocument: REV. G; PackageReference: SOT-23; Publisher: Altium Limited; ComponentLink1Description: Manufacturer Link; ComponentLink1URL: http://www.vishay.com/
footprint SOT-23 (SOT-23; 3 Leads; Body 3.1 x 2.5 mm, inc. leads (LxW max))
simulation model DZ23C2V7 (SUBCKT)
signal-integrity model DZ23C2V7
pins: 1 A1, 2 A2, 3 K

## DZ23C3V0
designator D?
300mW Dual Surface Mount Zener Diode; Published: 8-Jun-2000; LatestRevisionDate: 17-Jul-2002; LatestRevisionNote: Re-released for DXP Platform.; DatasheetDocument: REV. G; PackageReference: SOT-23; Publisher: Altium Limited; ComponentLink1Description: Manufacturer Link; ComponentLink1URL: http://www.vishay.com/
footprint SOT-23 (SOT-23; 3 Leads; Body 3.1 x 2.5 mm, inc. leads (LxW max))
simulation model DZ23C3V0 (SUBCKT)
signal-integrity model DZ23C3V0
pins: 1 A1, 2 A2, 3 K

## DZ23C3V3
designator D?
300mW Dual Surface Mount Zener Diode; Published: 8-Jun-2000; LatestRevisionDate: 17-Jul-2002; LatestRevisionNote: Re-released for DXP Platform.; DatasheetDocument: REV. G; PackageReference: SOT-23; Publisher: Altium Limited; ComponentLink1Description: Manufacturer Link; ComponentLink1URL: http://www.vishay.com/
footprint SOT-23 (SOT-23; 3 Leads; Body 3.1 x 2.5 mm, inc. leads (LxW max))
simulation model DZ23C3V3 (SUBCKT)
signal-integrity model DZ23C3V3
pins: 1 A1, 2 A2, 3 K

## DZ23C3V6
designator D?
300mW Dual Surface Mount Zener Diode; Published: 8-Jun-2000; LatestRevisionDate: 17-Jul-2002; LatestRevisionNote: Re-released for DXP Platform.; DatasheetDocument: REV. G; PackageReference: SOT-23; Publisher: Altium Limited; ComponentLink1Description: Manufacturer Link; ComponentLink1URL: http://www.vishay.com/
footprint SOT-23 (SOT-23; 3 Leads; Body 3.1 x 2.5 mm, inc. leads (LxW max))
simulation model DZ23C3V6 (SUBCKT)
signal-integrity model DZ23C3V6
pins: 1 A1, 2 A2, 3 K

## DZ23C3V9
designator D?
300mW Dual Surface Mount Zener Diode; Published: 8-Jun-2000; LatestRevisionDate: 17-Jul-2002; LatestRevisionNote: Re-released for DXP Platform.; DatasheetDocument: REV. G; PackageReference: SOT-23; Publisher: Altium Limited; ComponentLink1Description: Manufacturer Link; ComponentLink1URL: http://www.vishay.com/
footprint SOT-23 (SOT-23; 3 Leads; Body 3.1 x 2.5 mm, inc. leads (LxW max))
simulation model DZ23C3V9 (SUBCKT)
signal-integrity model DZ23C3V9
pins: 1 A1, 2 A2, 3 K

## DZ23C4V3
designator D?
300mW Dual Surface Mount Zener Diode; Published: 8-Jun-2000; LatestRevisionDate: 17-Jul-2002; LatestRevisionNote: Re-released for DXP Platform.; DatasheetDocument: REV. G; PackageReference: SOT-23; Publisher: Altium Limited; ComponentLink1Description: Manufacturer Link; ComponentLink1URL: http://www.vishay.com/
footprint SOT-23 (SOT-23; 3 Leads; Body 3.1 x 2.5 mm, inc. leads (LxW max))
signal-integrity model DZ23C4V3
pins: 1 A1, 2 A2, 3 K

## DZ23C4V7
designator D?
300mW Dual Surface Mount Zener Diode; Published: 8-Jun-2000; LatestRevisionDate: 17-Jul-2002; LatestRevisionNote: Re-released for DXP Platform.; DatasheetDocument: REV. G; PackageReference: SOT-23; Publisher: Altium Limited; ComponentLink1Description: Manufacturer Link; ComponentLink1URL: http://www.vishay.com/
footprint SOT-23 (SOT-23; 3 Leads; Body 3.1 x 2.5 mm, inc. leads (LxW max))
simulation model DZ23C4V7 (SUBCKT)
signal-integrity model DZ23C4V7
pins: 1 A1, 2 A2, 3 K

## DZ23C5V1
designator D?
300mW Dual Surface Mount Zener Diode; Published: 8-Jun-2000; LatestRevisionDate: 17-Jul-2002; LatestRevisionNote: Re-released for DXP Platform.; DatasheetDocument: REV. G; PackageReference: SOT-23; Publisher: Altium Limited; ComponentLink1Description: Manufacturer Link; ComponentLink1URL: http://www.vishay.com/
footprint SOT-23 (SOT-23; 3 Leads; Body 3.1 x 2.5 mm, inc. leads (LxW max))
simulation model DZ23C5V1 (SUBCKT)
signal-integrity model DZ23C5V1
pins: 1 A1, 2 A2, 3 K

## DZ23C5V6
designator D?
300mW Dual Surface Mount Zener Diode; Published: 8-Jun-2000; LatestRevisionDate: 17-Jul-2002; LatestRevisionNote: Re-released for DXP Platform.; DatasheetDocument: REV. G; PackageReference: SOT-23; Publisher: Altium Limited; ComponentLink1Description: Manufacturer Link; ComponentLink1URL: http://www.vishay.com/
footprint SOT-23 (SOT-23; 3 Leads; Body 3.1 x 2.5 mm, inc. leads (LxW max))
simulation model DZ23C5V6 (SUBCKT)
signal-integrity model DZ23C5V6
pins: 1 A1, 2 A2, 3 K

## DZ23C6V2
designator D?
300mW Dual Surface Mount Zener Diode; Published: 8-Jun-2000; LatestRevisionDate: 17-Jul-2002; LatestRevisionNote: Re-released for DXP Platform.; DatasheetDocument: REV. G; PackageReference: SOT-23; Publisher: Altium Limited; ComponentLink1Description: Manufacturer Link; ComponentLink1URL: http://www.vishay.com/
footprint SOT-23 (SOT-23; 3 Leads; Body 3.1 x 2.5 mm, inc. leads (LxW max))
simulation model DZ23C6V2 (SUBCKT)
signal-integrity model DZ23C6V2
pins: 1 A1, 2 A2, 3 K

## DZ23C6V8
designator D?
300mW Dual Surface Mount Zener Diode; Published: 8-Jun-2000; LatestRevisionDate: 17-Jul-2002; LatestRevisionNote: Re-released for DXP Platform.; DatasheetDocument: REV. G; PackageReference: SOT-23; Publisher: Altium Limited; ComponentLink1Description: Manufacturer Link; ComponentLink1URL: http://www.vishay.com/
footprint SOT-23 (SOT-23; 3 Leads; Body 3.1 x 2.5 mm, inc. leads (LxW max))
simulation model DZ23C6V8 (SUBCKT)
signal-integrity model DZ23C6V8
pins: 1 A1, 2 A2, 3 K

## DZ23C7V5
designator D?
300mW Dual Surface Mount Zener Diode; Published: 8-Jun-2000; LatestRevisionDate: 17-Jul-2002; LatestRevisionNote: Re-released for DXP Platform.; DatasheetDocument: REV. G; PackageReference: SOT-23; Publisher: Altium Limited; ComponentLink1Description: Manufacturer Link; ComponentLink1URL: http://www.vishay.com/
footprint SOT-23 (SOT-23; 3 Leads; Body 3.1 x 2.5 mm, inc. leads (LxW max))
simulation model DZ23C7V5 (SUBCKT)
signal-integrity model DZ23C7V5
pins: 1 A1, 2 A2, 3 K

## DZ23C8V2
designator D?
300mW Dual Surface Mount Zener Diode; Published: 8-Jun-2000; LatestRevisionDate: 17-Jul-2002; LatestRevisionNote: Re-released for DXP Platform.; DatasheetDocument: REV. G; PackageReference: SOT-23; Publisher: Altium Limited; ComponentLink1Description: Manufacturer Link; ComponentLink1URL: http://www.vishay.com/
footprint SOT-23 (SOT-23; 3 Leads; Body 3.1 x 2.5 mm, inc. leads (LxW max))
simulation model DZ23C8V2 (SUBCKT)
signal-integrity model DZ23C8V2
pins: 1 A1, 2 A2, 3 K

## DZ23C9V1
designator D?
300mW Dual Surface Mount Zener Diode; Published: 8-Jun-2000; LatestRevisionDate: 17-Jul-2002; LatestRevisionNote: Re-released for DXP Platform.; DatasheetDocument: REV. G; PackageReference: SOT-23; Publisher: Altium Limited; ComponentLink1Description: Manufacturer Link; ComponentLink1URL: http://www.vishay.com/
footprint SOT-23 (SOT-23; 3 Leads; Body 3.1 x 2.5 mm, inc. leads (LxW max))
simulation model DZ23C9V1 (SUBCKT)
signal-integrity model DZ23C9V1
pins: 1 A1, 2 A2, 3 K

## DZ23C10
designator D?
300mW Dual Surface Mount Zener Diode; Published: 8-Jun-2000; LatestRevisionDate: 17-Jul-2002; LatestRevisionNote: Re-released for DXP Platform.; DatasheetDocument: REV. G; PackageReference: SOT-23; Publisher: Altium Limited; ComponentLink1Description: Manufacturer Link; ComponentLink1URL: http://www.vishay.com/
footprint SOT-23 (SOT-23; 3 Leads; Body 3.1 x 2.5 mm, inc. leads (LxW max))
simulation model DZ23C10 (SUBCKT)
signal-integrity model DZ23C10
pins: 1 A1, 2 A2, 3 K

## DZ23C11
designator D?
300mW Dual Surface Mount Zener Diode; Published: 8-Jun-2000; LatestRevisionDate: 17-Jul-2002; LatestRevisionNote: Re-released for DXP Platform.; DatasheetDocument: REV. G; PackageReference: SOT-23; Publisher: Altium Limited; ComponentLink1Description: Manufacturer Link; ComponentLink1URL: http://www.vishay.com/
footprint SOT-23 (SOT-23; 3 Leads; Body 3.1 x 2.5 mm, inc. leads (LxW max))
simulation model DZ23C11 (SUBCKT)
signal-integrity model DZ23C11
pins: 1 A1, 2 A2, 3 K

## DZ23C12
designator D?
300mW Dual Surface Mount Zener Diode; Published: 8-Jun-2000; LatestRevisionDate: 17-Jul-2002; LatestRevisionNote: Re-released for DXP Platform.; DatasheetDocument: REV. G; PackageReference: SOT-23; Publisher: Altium Limited; ComponentLink1Description: Manufacturer Link; ComponentLink1URL: http://www.vishay.com/
footprint SOT-23 (SOT-23; 3 Leads; Body 3.1 x 2.5 mm, inc. leads (LxW max))
simulation model DZ23C12 (SUBCKT)
signal-integrity model DZ23C12
pins: 1 A1, 2 A2, 3 K

## DZ23C13
designator D?
300mW Dual Surface Mount Zener Diode; Published: 8-Jun-2000; LatestRevisionDate: 17-Jul-2002; LatestRevisionNote: Re-released for DXP Platform.; DatasheetDocument: REV. G; PackageReference: SOT-23; Publisher: Altium Limited; ComponentLink1Description: Manufacturer Link; ComponentLink1URL: http://www.vishay.com/
footprint SOT-23 (SOT-23; 3 Leads; Body 3.1 x 2.5 mm, inc. leads (LxW max))
simulation model DZ23C13 (SUBCKT)
signal-integrity model DZ23C13
pins: 1 A1, 2 A2, 3 K

## DZ23C15
designator D?
300mW Dual Surface Mount Zener Diode; Published: 8-Jun-2000; LatestRevisionDate: 17-Jul-2002; LatestRevisionNote: Re-released for DXP Platform.; DatasheetDocument: REV. G; PackageReference: SOT-23; Publisher: Altium Limited; ComponentLink1Description: Manufacturer Link; ComponentLink1URL: http://www.vishay.com/
footprint SOT-23 (SOT-23; 3 Leads; Body 3.1 x 2.5 mm, inc. leads (LxW max))
simulation model DZ23C15 (SUBCKT)
signal-integrity model DZ23C15
pins: 1 A1, 2 A2, 3 K

## DZ23C16
designator D?
300mW Dual Surface Mount Zener Diode; Published: 8-Jun-2000; LatestRevisionDate: 17-Jul-2002; LatestRevisionNote: Re-released for DXP Platform.; DatasheetDocument: REV. G; PackageReference: SOT-23; Publisher: Altium Limited; ComponentLink1Description: Manufacturer Link; ComponentLink1URL: http://www.vishay.com/
footprint SOT-23 (SOT-23; 3 Leads; Body 3.1 x 2.5 mm, inc. leads (LxW max))
simulation model DZ23C16 (SUBCKT)
signal-integrity model DZ23C16
pins: 1 A1, 2 A2, 3 K

## DZ23C18
designator D?
300mW Dual Surface Mount Zener Diode; Published: 8-Jun-2000; LatestRevisionDate: 17-Jul-2002; LatestRevisionNote: Re-released for DXP Platform.; DatasheetDocument: REV. G; PackageReference: SOT-23; Publisher: Altium Limited; ComponentLink1Description: Manufacturer Link; ComponentLink1URL: http://www.vishay.com/
footprint SOT-23 (SOT-23; 3 Leads; Body 3.1 x 2.5 mm, inc. leads (LxW max))
simulation model DZ23C18 (SUBCKT)
signal-integrity model DZ23C18
pins: 1 A1, 2 A2, 3 K

## DZ23C20
designator D?
300mW Dual Surface Mount Zener Diode; Published: 8-Jun-2000; LatestRevisionDate: 17-Jul-2002; LatestRevisionNote: Re-released for DXP Platform.; DatasheetDocument: REV. G; PackageReference: SOT-23; Publisher: Altium Limited; ComponentLink1Description: Manufacturer Link; ComponentLink1URL: http://www.vishay.com/
footprint SOT-23 (SOT-23; 3 Leads; Body 3.1 x 2.5 mm, inc. leads (LxW max))
simulation model DZ23C20 (SUBCKT)
signal-integrity model DZ23C20
pins: 1 A1, 2 A2, 3 K

## DZ23C22
designator D?
300mW Dual Surface Mount Zener Diode; Published: 8-Jun-2000; LatestRevisionDate: 17-Jul-2002; LatestRevisionNote: Re-released for DXP Platform.; DatasheetDocument: REV. G; PackageReference: SOT-23; Publisher: Altium Limited; ComponentLink1Description: Manufacturer Link; ComponentLink1URL: http://www.vishay.com/
footprint SOT-23 (SOT-23; 3 Leads; Body 3.1 x 2.5 mm, inc. leads (LxW max))
simulation model DZ23C22 (SUBCKT)
signal-integrity model DZ23C22
pins: 1 A1, 2 A2, 3 K

## DZ23C24
designator D?
300mW Dual Surface Mount Zener Diode; Published: 8-Jun-2000; LatestRevisionDate: 17-Jul-2002; LatestRevisionNote: Re-released for DXP Platform.; DatasheetDocument: REV. G; PackageReference: SOT-23; Publisher: Altium Limited; ComponentLink1Description: Manufacturer Link; ComponentLink1URL: http://www.vishay.com/
footprint SOT-23 (SOT-23; 3 Leads; Body 3.1 x 2.5 mm, inc. leads (LxW max))
simulation model DZ23C24 (SUBCKT)
signal-integrity model DZ23C24
pins: 1 A1, 2 A2, 3 K

## DZ23C27
designator D?
300mW Dual Surface Mount Zener Diode; Published: 8-Jun-2000; LatestRevisionDate: 17-Jul-2002; LatestRevisionNote: Re-released for DXP Platform.; DatasheetDocument: REV. G; PackageReference: SOT-23; Publisher: Altium Limited; ComponentLink1Description: Manufacturer Link; ComponentLink1URL: http://www.vishay.com/
footprint SOT-23 (SOT-23; 3 Leads; Body 3.1 x 2.5 mm, inc. leads (LxW max))
simulation model DZ23C27 (SUBCKT)
signal-integrity model DZ23C27
pins: 1 A1, 2 A2, 3 K

## DZ23C30
designator D?
300mW Dual Surface Mount Zener Diode; Published: 8-Jun-2000; LatestRevisionDate: 17-Jul-2002; LatestRevisionNote: Re-released for DXP Platform.; DatasheetDocument: REV. G; PackageReference: SOT-23; Publisher: Altium Limited; ComponentLink1Description: Manufacturer Link; ComponentLink1URL: http://www.vishay.com/
footprint SOT-23 (SOT-23; 3 Leads; Body 3.1 x 2.5 mm, inc. leads (LxW max))
simulation model DZ23C30 (SUBCKT)
signal-integrity model DZ23C30
pins: 1 A1, 2 A2, 3 K

## DZ23C33
designator D?
300mW Dual Surface Mount Zener Diode; Published: 8-Jun-2000; LatestRevisionDate: 17-Jul-2002; LatestRevisionNote: Re-released for DXP Platform.; DatasheetDocument: REV. G; PackageReference: SOT-23; Publisher: Altium Limited; ComponentLink1Description: Manufacturer Link; ComponentLink1URL: http://www.vishay.com/
footprint SOT-23 (SOT-23; 3 Leads; Body 3.1 x 2.5 mm, inc. leads (LxW max))
simulation model DZ23C33 (SUBCKT)
signal-integrity model DZ23C33
pins: 1 A1, 2 A2, 3 K

## DZ23C36
designator D?
300mW Dual Surface Mount Zener Diode; Published: 8-Jun-2000; LatestRevisionDate: 17-Jul-2002; LatestRevisionNote: Re-released for DXP Platform.; DatasheetDocument: REV. G; PackageReference: SOT-23; Publisher: Altium Limited; ComponentLink1Description: Manufacturer Link; ComponentLink1URL: http://www.vishay.com/
footprint SOT-23 (SOT-23; 3 Leads; Body 3.1 x 2.5 mm, inc. leads (LxW max))
simulation model DZ23C36 (SUBCKT)
signal-integrity model DZ23C36
pins: 1 A1, 2 A2, 3 K

## DZ23C39
designator D?
300mW Dual Surface Mount Zener Diode; Published: 8-Jun-2000; LatestRevisionDate: 17-Jul-2002; LatestRevisionNote: Re-released for DXP Platform.; DatasheetDocument: REV. G; PackageReference: SOT-23; Publisher: Altium Limited; ComponentLink1Description: Manufacturer Link; ComponentLink1URL: http://www.vishay.com/
footprint SOT-23 (SOT-23; 3 Leads; Body 3.1 x 2.5 mm, inc. leads (LxW max))
simulation model DZ23C39 (SUBCKT)
signal-integrity model DZ23C39
pins: 1 A1, 2 A2, 3 K

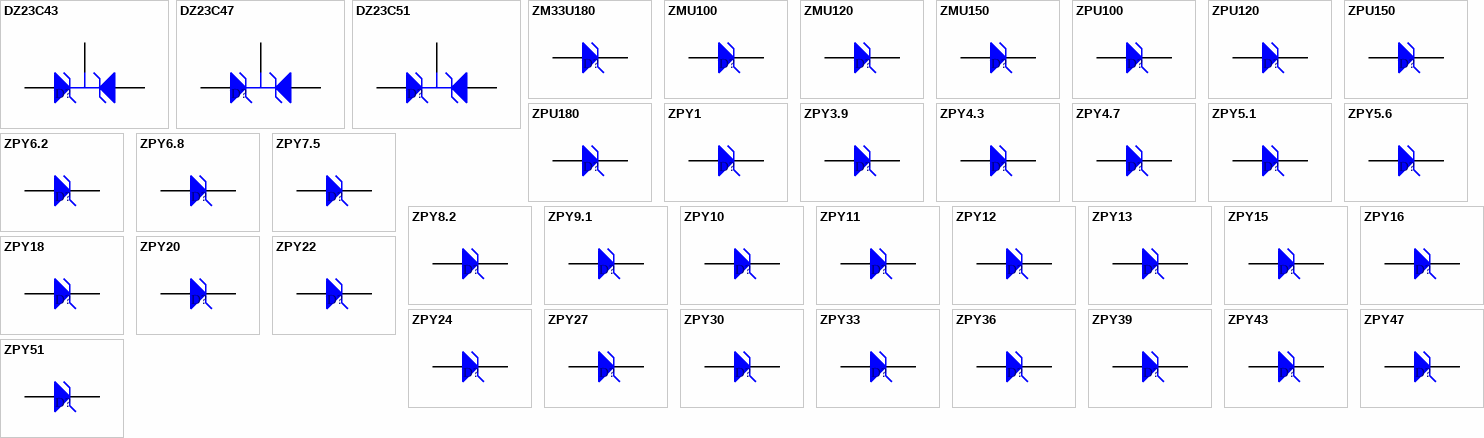
[diagram p5: symbols DZ23C43 to ZPY51]

## DZ23C43
designator D?
300mW Dual Surface Mount Zener Diode; Published: 8-Jun-2000; LatestRevisionDate: 17-Jul-2002; LatestRevisionNote: Re-released for DXP Platform.; DatasheetDocument: REV. G; PackageReference: SOT-23; Publisher: Altium Limited; ComponentLink1Description: Manufacturer Link; ComponentLink1URL: http://www.vishay.com/
footprint SOT-23 (SOT-23; 3 Leads; Body 3.1 x 2.5 mm, inc. leads (LxW max))
simulation model DZ23C43 (SUBCKT)
signal-integrity model DZ23C43
pins: 1 A1, 2 A2, 3 K

## DZ23C47
designator D?
300mW Dual Surface Mount Zener Diode; Published: 8-Jun-2000; LatestRevisionDate: 17-Jul-2002; LatestRevisionNote: Re-released for DXP Platform.; DatasheetDocument: REV. G; PackageReference: SOT-23; Publisher: Altium Limited; ComponentLink1Description: Manufacturer Link; ComponentLink1URL: http://www.vishay.com/
footprint SOT-23 (SOT-23; 3 Leads; Body 3.1 x 2.5 mm, inc. leads (LxW max))
simulation model DZ23C47 (SUBCKT)
signal-integrity model DZ23C47
pins: 1 A1, 2 A2, 3 K

## DZ23C51
designator D?
300mW Dual Surface Mount Zener Diode; Published: 8-Jun-2000; LatestRevisionDate: 17-Jul-2002; LatestRevisionNote: Re-released for DXP Platform.; DatasheetDocument: REV. G; PackageReference: SOT-23; Publisher: Altium Limited; ComponentLink1Description: Manufacturer Link; ComponentLink1URL: http://www.vishay.com/
footprint SOT-23 (SOT-23; 3 Leads; Body 3.1 x 2.5 mm, inc. leads (LxW max))
simulation model DZ23C51 (SUBCKT)
signal-integrity model DZ23C51
pins: 1 A1, 2 A2, 3 K

## ZM33U180
designator D?
High-Voltage Power Zener Diode; Published: 8-Jun-2000; LatestRevisionDate: 19-Mar-2004; LatestRevisionNote: Silkscreen size reduced.; DatasheetDocument: 16-May-1997; PackageDocument: May-1997; PackageReference: MELF; Publisher: Altium Limited; ComponentLink1Description: Manufacturer Link; ComponentLink1URL: http://www.vishay.com/
footprint MELF (Metal Electrode Face (MELF) Diode; Body 5 x 2.5 mm (LxDia))
simulation model ZMU180 (SUBCKT)
signal-integrity model ZM33U180
pins: 1 A, 2 K

## ZMU100
designator D?
High-Voltage Power Zener Diode; Published: 8-Jun-2000; LatestRevisionDate: 19-Mar-2004; LatestRevisionNote: Silkscreen size reduced.; DatasheetDocument: 16-May-1997; PackageDocument: May-1997; PackageReference: MELF; Publisher: Altium Limited; ComponentLink1Description: Manufacturer Link; ComponentLink1URL: http://www.vishay.com/
footprint MELF (Metal Electrode Face (MELF) Diode; Body 5 x 2.5 mm (LxDia))
simulation model ZMU100 (SUBCKT)
signal-integrity model ZMU100
pins: 1 A, 2 K